# Altium footprint library B2PS-VH.PcbLib: 1 footprints
Each footprint in its own frame and in the unit in brackets; x right, y up, seen from the top. Pads: shape width x height; smd on the part's side, far side on the other; paste and mask are expansions set on the pad; w line width, h text height; cw(c..) or ccw(c..) is an arc to the next point about the centre after c.
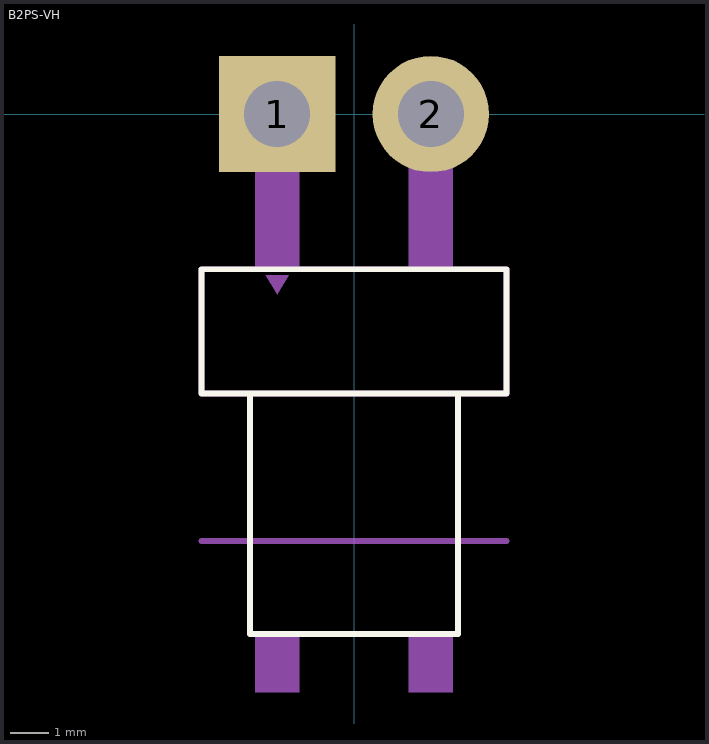
[diagram p0: the footprint, top view; thin cyan lines are the x and y axes]

## B2PS-VH [mm]
pads (2):
  rect 3x3 / inner round 3 / far side rect 3x3 hole 1.7: 1(-1.98,0)
  round 3 hole 1.7: 2(1.98,0)
Top Overlay:
  lines w0.152: -2.68,-7.2 -3.93,-7.2 -3.93,-4 3.93,-4 3.93,-7.2 2.68,-7.2 ; -2.68,-7.2 2.68,-7.2 ; -2.68,-7.2 -2.68,-13.4 2.68,-13.4 2.68,-7.2
Assembly Top:
  region: -1.41,-4 -2.55,-4 -2.55,0.57 -1.41,0.57
  region: -1.41,-14.9 -2.55,-14.9 -2.55,-13.4 -1.41,-13.4
  region: 2.55,-4 1.41,-4 1.41,0.57 2.55,0.57
  region: 2.55,-14.9 1.41,-14.9 1.41,-13.4 2.55,-13.4
  region: -1.98,-4.65 -2.28,-4.15 -1.68,-4.15
  lines w0.152: -3.93,-11 3.93,-11 ; -3.93,-7.2 -2.68,-7.2 ; -3.93,-7.2 -3.93,-4 3.93,-4 3.93,-7.2 ; -3.93,-7.2 3.93,-7.2 ; -2.68,-7.2 2.68,-7.2 ; -2.68,-7.2 -2.68,-13.4 2.68,-13.4 2.68,-7.2 ; 2.68,-7.2 3.93,-7.2
  text "PCB edge, when used" at -3.93,-11 h0.45
  text "with VR connector receptacle" at -3.93,-11.9 h0.45
  text "PCB edge, when used" at -3.93,-7.2 h0.45
  text "with VH connector receptacle" at -3.93,-8.1 h0.45
3D body "step_temp.STEP": height 8.5, standoff -3.6, extent -3.93,-14.9 3.93,0.57